# Altium footprint library SM_QFN-32_7x7_L.PcbLib: 1 footprints
Each footprint in its own frame and in the unit in brackets; x right, y up, seen from the top. Pads: shape width x height; smd on the part's side, far side on the other; paste and mask are expansions set on the pad; w line width, h text height; cw(c..) or ccw(c..) is an arc to the next point about the centre after c.
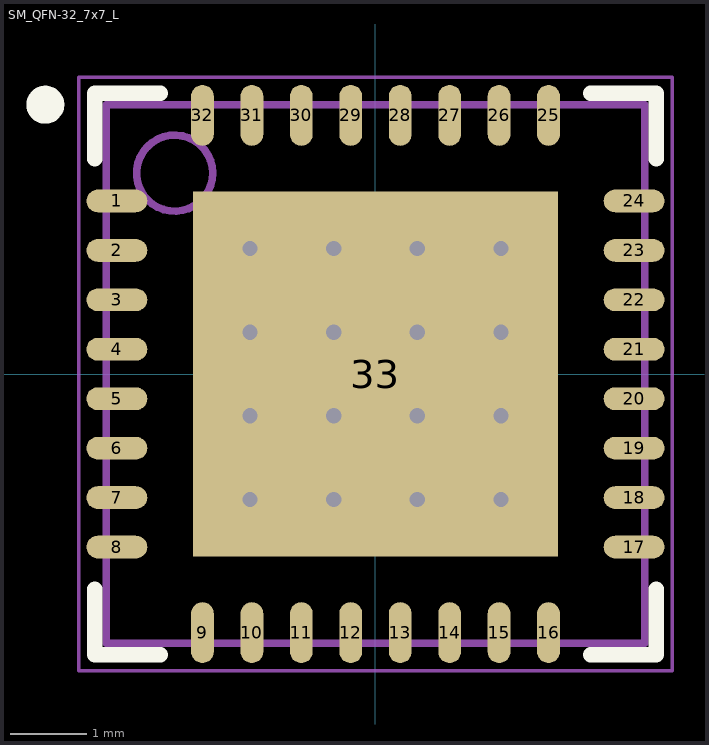
[diagram p0: the footprint, top view; thin cyan lines are the x and y axes]

## SM_QFN-32_7x7_L [mm] "QFN, 32-Leads, Body 7x7mm, Pitch 0.65mm, Thermal Pad 4.8x4.8mm, IPC High Density"
height 0.991
pads (33):
  oval 0.8x0.3 smd: 1(-3.4,2.275) 2(-3.4,1.625) 3(-3.4,0.975) 4(-3.4,0.325) 5(-3.4,-0.325) 6(-3.4,-0.975) 7(-3.4,-1.625) 8(-3.4,-2.275) 17(3.4,-2.275) 18(3.4,-1.625) 19(3.4,-0.975) 20(3.4,-0.325) 21(3.4,0.325) 22(3.4,0.975) 23(3.4,1.625) 24(3.4,2.275)
  oval 0.3x0.8 smd: 9(-2.275,-3.4) 10(-1.625,-3.4) 11(-0.975,-3.4) 12(-0.325,-3.4) 13(0.325,-3.4) 14(0.975,-3.4) 15(1.625,-3.4) 16(2.275,-3.4) 25(2.275,3.4) 26(1.625,3.4) 27(0.975,3.4) 28(0.325,3.4) 29(-0.325,3.4) 30(-0.975,3.4) 31(-1.625,3.4) 32(-2.275,3.4)
  rect 4.8x4.8 smd: 33(0,0)
via -1.65,1.65 diameter 0.5 hole 0.2
via -0.55,1.65 diameter 0.5 hole 0.2
via 0.55,1.65 diameter 0.5 hole 0.2
via 1.65,1.65 diameter 0.5 hole 0.2
via -1.65,0.55 diameter 0.5 hole 0.2
via -0.55,0.55 diameter 0.5 hole 0.2
via 0.55,0.55 diameter 0.5 hole 0.2
via 1.65,0.55 diameter 0.5 hole 0.2
via -1.65,-0.55 diameter 0.5 hole 0.2
via -0.55,-0.55 diameter 0.5 hole 0.2
via 0.55,-0.55 diameter 0.5 hole 0.2
via 1.65,-0.55 diameter 0.5 hole 0.2
via -1.65,-1.65 diameter 0.5 hole 0.2
via -0.55,-1.65 diameter 0.5 hole 0.2
via 0.55,-1.65 diameter 0.5 hole 0.2
via 1.65,-1.65 diameter 0.5 hole 0.2
Top Overlay:
  circle w0.25: c-4.34,3.54 r0.125
  lines w0.2: -3.69,-2.825 -3.69,-3.69 -2.825,-3.69 ; -3.69,2.825 -3.69,3.69 -2.825,3.69 ; 2.825,-3.69 3.69,-3.69 3.69,-2.825 ; 2.825,3.69 3.69,3.69 3.69,2.825
Mechanical 13:
  circle w0.1: c-2.64,2.64 r0.5
  lines w0.1: -3.54,-3.54 -3.54,3.54 3.54,3.54 3.54,-3.54 -3.54,-3.54
Mechanical 15:
  lines w0.05: -3.9,-3.9 -3.9,3.9 3.9,3.9 3.9,-3.9 -3.9,-3.9
  lines w0.1: -0.5,0 0.5,0 ; 0,-0.5 0,0.5
3D body: height 1, standoff 0, extent -3.54,-3.54 3.54,3.54